# EAGLE library part ITG/MPU_MODULE (library zumy)
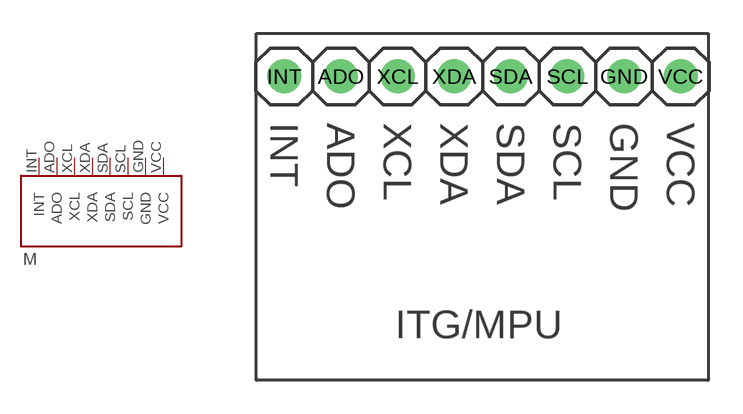
[diagram p1: symbol with the pads of ITG/MPU_MODULE; footprint ITG/MPU_MODULE]

Designator prefix M

## ITG/MPU_MODULE  [ITG/MPU_MODULE]
ADO  ADO
GND  GND
INT  INT
SCL  SCL
SDA  SDA
VCC  VCC
XCL  XCL
XDA  XDA

## Footprint ITG/MPU_MODULE (pad centres in mm)
drill 1.016: ADO -6.372,7.284; GND 6.328,7.284; INT -8.912,7.284; SCL 3.788,7.284; SDA 1.248,7.284; VCC 8.868,7.284; XCL -3.832,7.284; XDA -1.292,7.284